# Altium schematic symbol library Schlib1.SchLib: 2 symbols
Pins are listed as number, name and electrical type; pins without a type are passive.

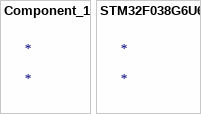
[diagram p0: symbols Component_1 to STM32F038G6U6]

## Component_1
designator *

## STM32F038G6U6
designator *
MCU 32-bit ARM Cortex M0 RISC 32KB Flash 2.5V/3.3V 28-Pin UFQFPN Tray; Manufacturer: STMicroelectronics; Manufacturer Part Number: STM32F038G6U6; Frequency: 48MHz; Interface: I2C,SPI,IrDA,UART,USART,LIN; Number of I/Os: 22; Oscillator Type: Internal; Peripherals: POR,PWM,WDT,DMA; Supplier 1: Digi-Key; RoHS: Yes; Category: Microcontrollers; Stock 1: 25; Case/Package: UFQFPN; Number of Pins: 28; Min Operating Temperature: -40°C; Max Operating Temperature: 85°C; Packaging: Tray; Memory Type: FLASH; Package Quantity: 2940; Memory Size: 32KB; Core Architecture: ARM; RoHS Compliant: Yes; ComponentLink1URL: http://www.mouser.com/ds/2/389/stm32f038c6-956224.pdf?src-supplier=Mouser; ComponentLink1Description: http://www.mouser.com/ds/2/389/stm32f038c6-956224.pdf?src-supplier=Mouser; ComponentLink2URL: http://www.st.com/content/ccc/resource/technical/document/datasheet/5f/5d/72/7b/c3/2d/46/54/DM00110868.pdf/files/DM00110868.pdf/jcr:content/translations/en.DM00110868.pdf?src-supplier=Digi-Key; ComponentLink2Description: http://www.st.com/content/ccc/resource/technical/document/datasheet/5f/5d/72/7b/c3/2d/46/54/DM00110868.pdf/files/DM00110868.pdf/jcr:content/translations/en.DM00110868.pdf?src-supplier=Digi-Key; Supplier Part Number 1: 497-STM32F038G6U6-ND